# Altium integrated library TI Data Converters Analog to Digital Converter.IntLib: 2197 symbols (part 90 of 168)
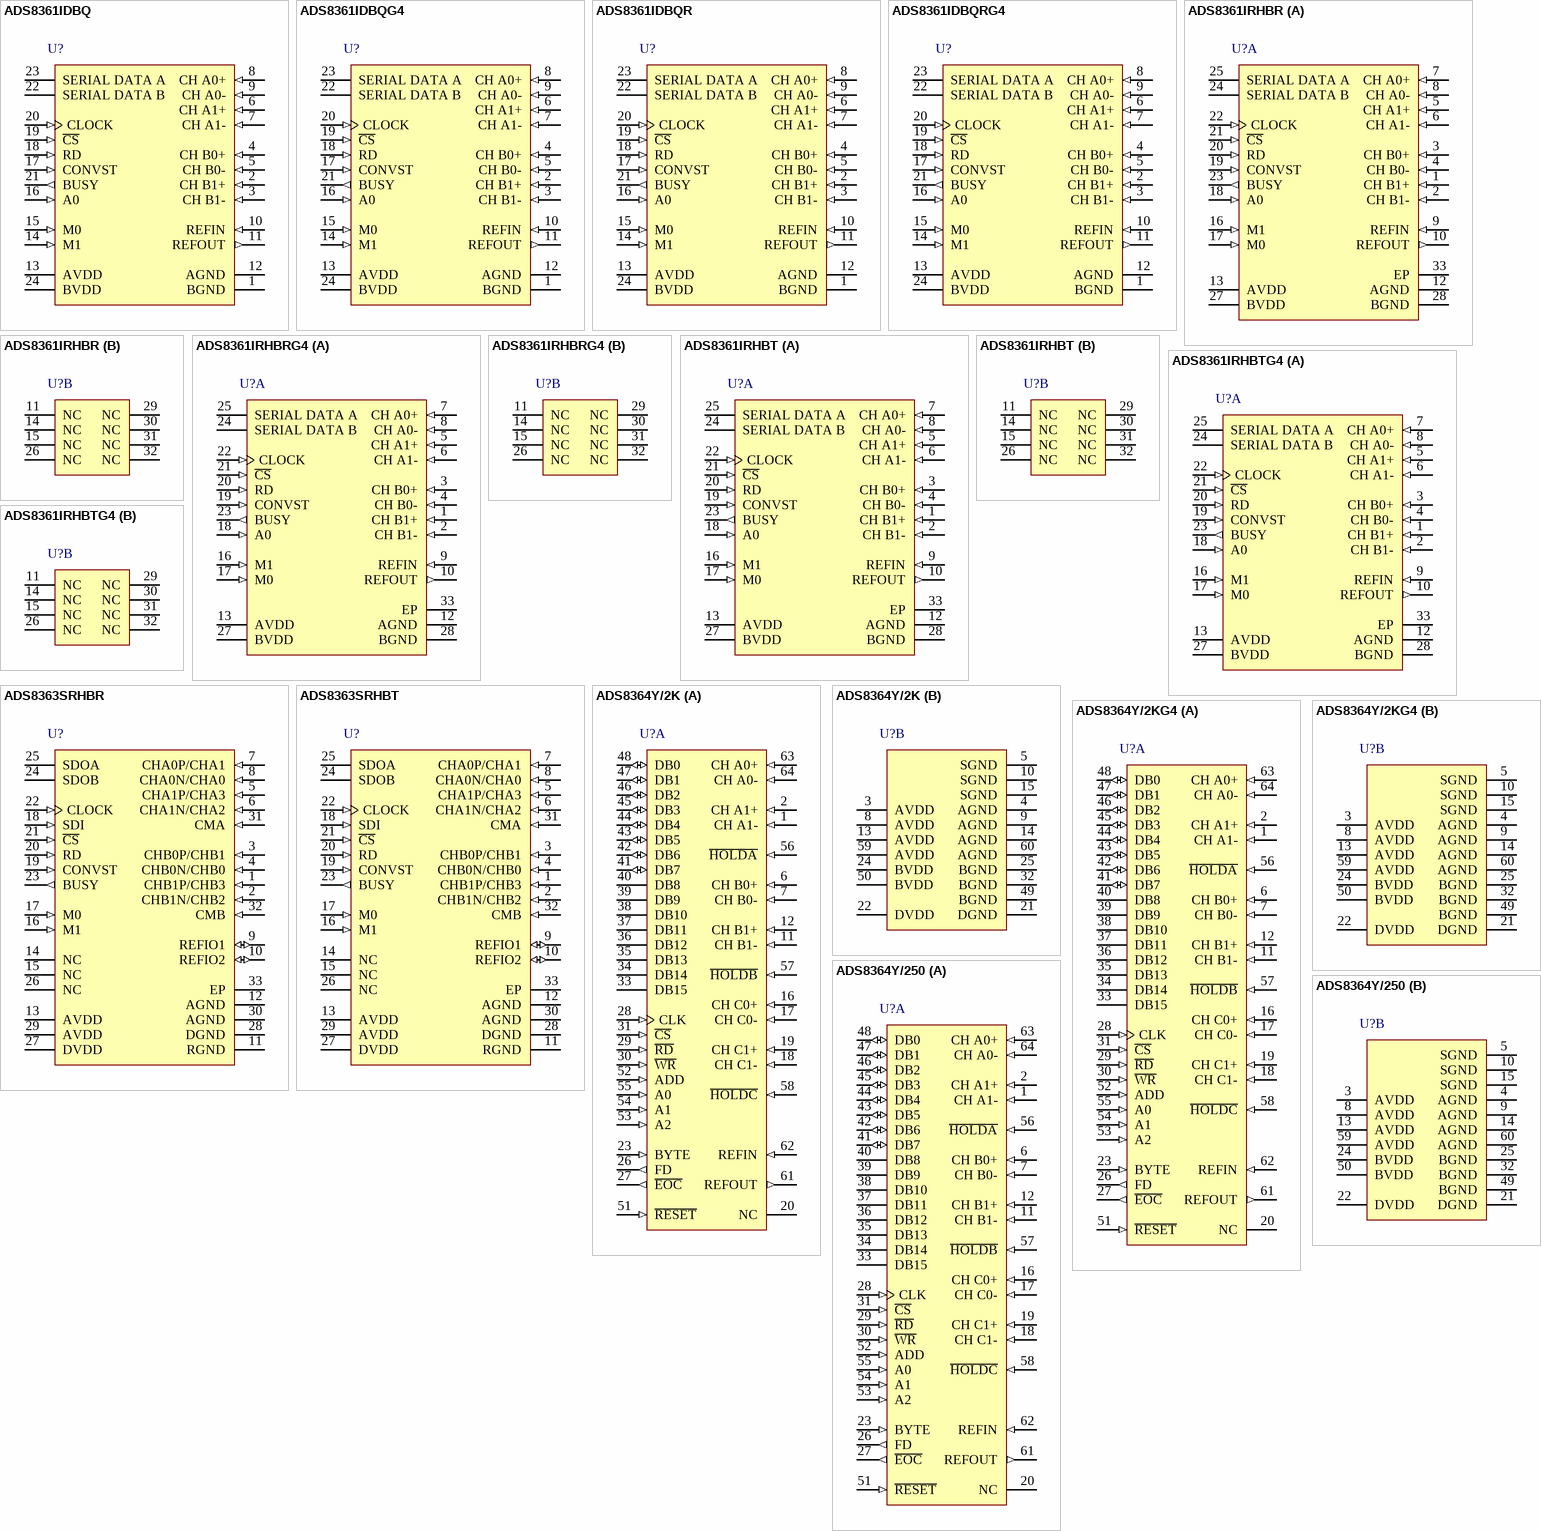
[diagram p215: symbols ADS8361IDBQ to ADS8364Y/250]

## ADS8361IDBQ
designator U?
16-Bit 500 kSPS ADC, 4 Channel, Serial Out, -40 to 125 degC, 24-pin SOP (DBQ24), Green (RoHS & no Sb/Br); Manufacturer: Texas Instruments; PartNumber: ADS8361IDBQ; # Input Channels: 4; Analog Voltage AV/DD(Max)(V): 5.25; Analog Voltage AV/DD(Min)(V): 4.75; Architecture: SAR; Digital Supply(Max)(V): 5.5; Digital Supply(Min)(V): 2.7; INL(Max)(+/-LSB): 8; Interface: Serial SPI; Resolution(Bits): 16; Sample Rate (max)(SPS): 500k; SFDR(dB): 94; SINAD(dB): 83; SubFamily: Precision ADC (<=10MSPS); DatasheetVersion: SBAS230E; PackageVersion: 4073301-4/H, 10/2008; PackageReference: DBQ24; PackageDescription: 24-Pin Plastic Small-Outline, Body 8.65 x 3.90 mm, Pitch 0.635 mm; Supplier 1: Digi-Key; Supplier Part Number 1: ADS7817UCG4-ND; Supplier 2: Mouser; Supplier Part Number 2: 595-ADS7817UCG4; Eco-Plan: Green (RoHS & no Sb/Br); SNR(dB): 83; Mounting Technology: Surface Mount; Code_JEDEC: MO-137; ComponentLink1Description: Manufacturer URL; ComponentLink1URL: http://www.ti.com/; ComponentLink2Description: Datasheet; ComponentLink2URL: http://www.ti.com/general/docs/lit/getliterature.tsp?genericPartNumber=ADS8361&fileType=pdf; ComponentLink3Description: Package Specification; ComponentLink3URL: http://www.ti.com/litv/pdf/mpds211a
footprint TI-DBQ24_N (SOP, 24-Leads, Body 8.65x6mm, Pitch 0.635mm, IPC Medium Density)
footprint TI-DBQ24_L (SOP, 24-Leads, Body 8.65x6mm, Pitch 0.635mm, IPC High Density)
footprint TI-DBQ24_M (SOP, 24-Leads, Body 8.65x6mm, Pitch 0.635mm, IPC Low Density)
pins: 1 BGND (power) "Digital I/O Ground. Connect directly to analog ground (pin 12).", 2 CH B1+ (in) "Noninverting Input Channel B1", 3 CH B1- (in) "Inverting Input Channel B1", 4 CH B0+ (in) "Noninverting Input Channel B0", 5 CH B0- (in) "Inverting Input Channel B0", 6 CH A1+ (in) "Noninverting Input Channel A1", 7 CH A1- (in) "Inverting Input Channel A1", 8 CH A0+ (in) "Noninverting Input Channel A0", 9 CH A0- (in) "Inverting Input Channel A0", 10 REFIN (in) "Reference Input", 11 REFOUT (out) "2.5V Reference Output", 12 AGND (power) "Analog Ground. Connect directly to digital ground (pin 1).", 13 AVDD (power) "Analog Power Supply, +5VDC. Decouple to analog ground with a 0.1uF ceramic capacitor and a 10uF tantalum capacitor.", 14 M1 (in) "Selects between the Serial Outputs. When M1 is LOW, both Serial Output A and Serial Output B are selected for data transfer. When M1 is HIGH, Serial output A is configured for both Channel A data and Channel B data; Serial (See Datasheet)", 15 M0 (in) "Selects between two-channel and four-channel operation. When M0 is LOW, two-channel operation is selected and operates in conjunction with A0. When A0 is HIGH, Channel A1 and Channel B1 are being converted. When A0 is LOW, (See Datasheet)", 16 A0 (in) "A0 operates in conjunction with M0. With M0 LOW and A0 HIGH, Channel A1 and Channel B1 are converted. With M0 LOW and A0 LOW, Channel A0 and Channel B0 are converted.", 17 CONVST (in) "Convert Start. When CONVST switches from LOW to HIGH, the device switches from the sample to hold mode, independent of the status of the external clock.", 18 RD (in) "Synchronization Pulse for the Serial Output.", 19 ~{CS} (in) "Chip Select. When LOW, the Serial Output A and Serial Output B outputs are active; when HIGH, the serial outputs are tri-stated.", 20 CLOCK (in) "An external CMOS-compatible clock can be applied to the CLOCK input to synchronize the conversion process to an external source. The CLOCK pin controls the sampling rate by the equation: fSAMPLE (max) = CLOCK/20.", 21 BUSY (out) "BUSY goes HIGH during a conversion and returns LOW after the third LSB has been transmitted on either the Serial A or Serial B output pin.", 22 SERIAL DATA B (hiz) "The Serial Output data word is comprised of channel information and 16 bits of data. In operation, data is valid on the falling edge of DCLOCK for 20 edges after the rising edge of RD.", 23 SERIAL DATA A (hiz) "The Serial Output data word is comprised of channel information and 16 bits of data. In operation, data is valid on the falling edge of DCLOCK for 20 edges after the rising edge of RD. When M1 is HIGH, both Channel A data (See Datasheet)", 24 BVDD (power) "Digital I/O Power Supply, 2.7V to 5.5V"

## ADS8361IDBQG4
designator U?
16-Bit 500 kSPS ADC, 4 Channel, Serial Out, -40 to 125 degC, 24-pin SOP (DBQ24), Green (RoHS & no Sb/Br); Manufacturer: Texas Instruments; PartNumber: ADS8361IDBQG4; # Input Channels: 4; Analog Voltage AV/DD(Max)(V): 5.25; Analog Voltage AV/DD(Min)(V): 4.75; Architecture: SAR; Digital Supply(Max)(V): 5.5; Digital Supply(Min)(V): 2.7; INL(Max)(+/-LSB): 8; Interface: Serial SPI; Resolution(Bits): 16; Sample Rate (max)(SPS): 500k; SFDR(dB): 94; SINAD(dB): 83; SubFamily: Precision ADC (<=10MSPS); DatasheetVersion: SBAS230E; PackageVersion: 4073301-4/H, 10/2008; PackageReference: DBQ24; PackageDescription: 24-Pin Plastic Small-Outline, Body 8.65 x 3.90 mm, Pitch 0.635 mm; Supplier 1: Digi-Key; Supplier Part Number 1: ADS7817UG4-ND; Supplier 2: Farnell; Supplier Part Number 2: 1235026; Supplier 3: Mouser; Supplier Part Number 3: 595-ADS7817UG4; Eco-Plan: Green (RoHS & no Sb/Br); SNR(dB): 83; Mounting Technology: Surface Mount; Code_JEDEC: MO-137; ComponentLink1Description: Manufacturer URL; ComponentLink1URL: http://www.ti.com/; ComponentLink2Description: Datasheet; ComponentLink2URL: http://www.ti.com/general/docs/lit/getliterature.tsp?genericPartNumber=ADS8361&fileType=pdf; ComponentLink3Description: Package Specification; ComponentLink3URL: http://www.ti.com/litv/pdf/mpds211a
footprint TI-DBQ24_N (SOP, 24-Leads, Body 8.65x6mm, Pitch 0.635mm, IPC Medium Density)
footprint TI-DBQ24_L (SOP, 24-Leads, Body 8.65x6mm, Pitch 0.635mm, IPC High Density)
footprint TI-DBQ24_M (SOP, 24-Leads, Body 8.65x6mm, Pitch 0.635mm, IPC Low Density)
pins: 1 BGND (power) "Digital I/O Ground. Connect directly to analog ground (pin 12).", 2 CH B1+ (in) "Noninverting Input Channel B1", 3 CH B1- (in) "Inverting Input Channel B1", 4 CH B0+ (in) "Noninverting Input Channel B0", 5 CH B0- (in) "Inverting Input Channel B0", 6 CH A1+ (in) "Noninverting Input Channel A1", 7 CH A1- (in) "Inverting Input Channel A1", 8 CH A0+ (in) "Noninverting Input Channel A0", 9 CH A0- (in) "Inverting Input Channel A0", 10 REFIN (in) "Reference Input", 11 REFOUT (out) "2.5V Reference Output", 12 AGND (power) "Analog Ground. Connect directly to digital ground (pin 1).", 13 AVDD (power) "Analog Power Supply, +5VDC. Decouple to analog ground with a 0.1uF ceramic capacitor and a 10uF tantalum capacitor.", 14 M1 (in) "Selects between the Serial Outputs. When M1 is LOW, both Serial Output A and Serial Output B are selected for data transfer. When M1 is HIGH, Serial output A is configured for both Channel A data and Channel B data; Serial (See Datasheet)", 15 M0 (in) "Selects between two-channel and four-channel operation. When M0 is LOW, two-channel operation is selected and operates in conjunction with A0. When A0 is HIGH, Channel A1 and Channel B1 are being converted. When A0 is LOW, (See Datasheet)", 16 A0 (in) "A0 operates in conjunction with M0. With M0 LOW and A0 HIGH, Channel A1 and Channel B1 are converted. With M0 LOW and A0 LOW, Channel A0 and Channel B0 are converted.", 17 CONVST (in) "Convert Start. When CONVST switches from LOW to HIGH, the device switches from the sample to hold mode, independent of the status of the external clock.", 18 RD (in) "Synchronization Pulse for the Serial Output.", 19 ~{CS} (in) "Chip Select. When LOW, the Serial Output A and Serial Output B outputs are active; when HIGH, the serial outputs are tri-stated.", 20 CLOCK (in) "An external CMOS-compatible clock can be applied to the CLOCK input to synchronize the conversion process to an external source. The CLOCK pin controls the sampling rate by the equation: fSAMPLE (max) = CLOCK/20.", 21 BUSY (out) "BUSY goes HIGH during a conversion and returns LOW after the third LSB has been transmitted on either the Serial A or Serial B output pin.", 22 SERIAL DATA B (hiz) "The Serial Output data word is comprised of channel information and 16 bits of data. In operation, data is valid on the falling edge of DCLOCK for 20 edges after the rising edge of RD.", 23 SERIAL DATA A (hiz) "The Serial Output data word is comprised of channel information and 16 bits of data. In operation, data is valid on the falling edge of DCLOCK for 20 edges after the rising edge of RD. When M1 is HIGH, both Channel A data (See Datasheet)", 24 BVDD (power) "Digital I/O Power Supply, 2.7V to 5.5V"

## ADS8361IDBQR
designator U?
16-Bit 500 kSPS ADC, 4 Channel, Serial Out, -40 to 125 degC, 24-pin SOP (DBQ24), Green (RoHS & no Sb/Br); Manufacturer: Texas Instruments; PartNumber: ADS8361IDBQR; # Input Channels: 4; Analog Voltage AV/DD(Max)(V): 5.25; Analog Voltage AV/DD(Min)(V): 4.75; Architecture: SAR; Digital Supply(Max)(V): 5.5; Digital Supply(Min)(V): 2.7; INL(Max)(+/-LSB): 8; Interface: Serial SPI; Resolution(Bits): 16; Sample Rate (max)(SPS): 500k; SFDR(dB): 94; SINAD(dB): 83; SubFamily: Precision ADC (<=10MSPS); DatasheetVersion: SBAS230E; PackageVersion: 4073301-4/H, 10/2008; PackageReference: DBQ24; PackageDescription: 24-Pin Plastic Small-Outline, Body 8.65 x 3.90 mm, Pitch 0.635 mm; Supplier 1: Digi-Key; Supplier Part Number 1: 296-35561-5-ND; Supplier 2: Farnell; Supplier Part Number 2: 1212285; Supplier 3: Newark; Supplier Part Number 3: 01M6818; Supplier 4: Newark; Supplier Part Number 4: 74C7096; Supplier 5: Mouser; Supplier Part Number 5: 595-ADS7813P; Eco-Plan: Green (RoHS & no Sb/Br); SNR(dB): 83; Mounting Technology: Surface Mount; Code_JEDEC: MO-137; ComponentLink1Description: Manufacturer URL; ComponentLink1URL: http://www.ti.com/; ComponentLink2Description: Datasheet; ComponentLink2URL: http://www.ti.com/general/docs/lit/getliterature.tsp?genericPartNumber=ADS8361&fileType=pdf; ComponentLink3Description: Package Specification; ComponentLink3URL: http://www.ti.com/litv/pdf/mpds211a
footprint TI-DBQ24_N (SOP, 24-Leads, Body 8.65x6mm, Pitch 0.635mm, IPC Medium Density)
footprint TI-DBQ24_L (SOP, 24-Leads, Body 8.65x6mm, Pitch 0.635mm, IPC High Density)
footprint TI-DBQ24_M (SOP, 24-Leads, Body 8.65x6mm, Pitch 0.635mm, IPC Low Density)
pins: 1 BGND (power) "Digital I/O Ground. Connect directly to analog ground (pin 12).", 2 CH B1+ (in) "Noninverting Input Channel B1", 3 CH B1- (in) "Inverting Input Channel B1", 4 CH B0+ (in) "Noninverting Input Channel B0", 5 CH B0- (in) "Inverting Input Channel B0", 6 CH A1+ (in) "Noninverting Input Channel A1", 7 CH A1- (in) "Inverting Input Channel A1", 8 CH A0+ (in) "Noninverting Input Channel A0", 9 CH A0- (in) "Inverting Input Channel A0", 10 REFIN (in) "Reference Input", 11 REFOUT (out) "2.5V Reference Output", 12 AGND (power) "Analog Ground. Connect directly to digital ground (pin 1).", 13 AVDD (power) "Analog Power Supply, +5VDC. Decouple to analog ground with a 0.1uF ceramic capacitor and a 10uF tantalum capacitor.", 14 M1 (in) "Selects between the Serial Outputs. When M1 is LOW, both Serial Output A and Serial Output B are selected for data transfer. When M1 is HIGH, Serial output A is configured for both Channel A data and Channel B data; Serial (See Datasheet)", 15 M0 (in) "Selects between two-channel and four-channel operation. When M0 is LOW, two-channel operation is selected and operates in conjunction with A0. When A0 is HIGH, Channel A1 and Channel B1 are being converted. When A0 is LOW, (See Datasheet)", 16 A0 (in) "A0 operates in conjunction with M0. With M0 LOW and A0 HIGH, Channel A1 and Channel B1 are converted. With M0 LOW and A0 LOW, Channel A0 and Channel B0 are converted.", 17 CONVST (in) "Convert Start. When CONVST switches from LOW to HIGH, the device switches from the sample to hold mode, independent of the status of the external clock.", 18 RD (in) "Synchronization Pulse for the Serial Output.", 19 ~{CS} (in) "Chip Select. When LOW, the Serial Output A and Serial Output B outputs are active; when HIGH, the serial outputs are tri-stated.", 20 CLOCK (in) "An external CMOS-compatible clock can be applied to the CLOCK input to synchronize the conversion process to an external source. The CLOCK pin controls the sampling rate by the equation: fSAMPLE (max) = CLOCK/20.", 21 BUSY (out) "BUSY goes HIGH during a conversion and returns LOW after the third LSB has been transmitted on either the Serial A or Serial B output pin.", 22 SERIAL DATA B (hiz) "The Serial Output data word is comprised of channel information and 16 bits of data. In operation, data is valid on the falling edge of DCLOCK for 20 edges after the rising edge of RD.", 23 SERIAL DATA A (hiz) "The Serial Output data word is comprised of channel information and 16 bits of data. In operation, data is valid on the falling edge of DCLOCK for 20 edges after the rising edge of RD. When M1 is HIGH, both Channel A data (See Datasheet)", 24 BVDD (power) "Digital I/O Power Supply, 2.7V to 5.5V"

## ADS8361IDBQRG4
designator U?
16-Bit 500 kSPS ADC, 4 Channel, Serial Out, -40 to 125 degC, 24-pin SOP (DBQ24), Green (RoHS & no Sb/Br); Manufacturer: Texas Instruments; PartNumber: ADS8361IDBQRG4; # Input Channels: 4; Analog Voltage AV/DD(Max)(V): 5.25; Analog Voltage AV/DD(Min)(V): 4.75; Architecture: SAR; Digital Supply(Max)(V): 5.5; Digital Supply(Min)(V): 2.7; INL(Max)(+/-LSB): 8; Interface: Serial SPI; Resolution(Bits): 16; Sample Rate (max)(SPS): 500k; SFDR(dB): 94; SINAD(dB): 83; SubFamily: Precision ADC (<=10MSPS); DatasheetVersion: SBAS230E; PackageVersion: 4073301-4/H, 10/2008; PackageReference: DBQ24; PackageDescription: 24-Pin Plastic Small-Outline, Body 8.65 x 3.90 mm, Pitch 0.635 mm; Supplier 1: Digi-Key; Supplier Part Number 1: ADS7813PB-ND; Supplier 2: Newark; Supplier Part Number 2: 74C7097; Supplier 3: Mouser; Supplier Part Number 3: 595-ADS7813PB; Eco-Plan: Green (RoHS & no Sb/Br); SNR(dB): 83; Mounting Technology: Surface Mount; Code_JEDEC: MO-137; ComponentLink1Description: Manufacturer URL; ComponentLink1URL: http://www.ti.com/; ComponentLink2Description: Datasheet; ComponentLink2URL: http://www.ti.com/general/docs/lit/getliterature.tsp?genericPartNumber=ADS8361&fileType=pdf; ComponentLink3Description: Package Specification; ComponentLink3URL: http://www.ti.com/litv/pdf/mpds211a
footprint TI-DBQ24_N (SOP, 24-Leads, Body 8.65x6mm, Pitch 0.635mm, IPC Medium Density)
footprint TI-DBQ24_L (SOP, 24-Leads, Body 8.65x6mm, Pitch 0.635mm, IPC High Density)
footprint TI-DBQ24_M (SOP, 24-Leads, Body 8.65x6mm, Pitch 0.635mm, IPC Low Density)
pins: 1 BGND (power) "Digital I/O Ground. Connect directly to analog ground (pin 12).", 2 CH B1+ (in) "Noninverting Input Channel B1", 3 CH B1- (in) "Inverting Input Channel B1", 4 CH B0+ (in) "Noninverting Input Channel B0", 5 CH B0- (in) "Inverting Input Channel B0", 6 CH A1+ (in) "Noninverting Input Channel A1", 7 CH A1- (in) "Inverting Input Channel A1", 8 CH A0+ (in) "Noninverting Input Channel A0", 9 CH A0- (in) "Inverting Input Channel A0", 10 REFIN (in) "Reference Input", 11 REFOUT (out) "2.5V Reference Output", 12 AGND (power) "Analog Ground. Connect directly to digital ground (pin 1).", 13 AVDD (power) "Analog Power Supply, +5VDC. Decouple to analog ground with a 0.1uF ceramic capacitor and a 10uF tantalum capacitor.", 14 M1 (in) "Selects between the Serial Outputs. When M1 is LOW, both Serial Output A and Serial Output B are selected for data transfer. When M1 is HIGH, Serial output A is configured for both Channel A data and Channel B data; Serial (See Datasheet)", 15 M0 (in) "Selects between two-channel and four-channel operation. When M0 is LOW, two-channel operation is selected and operates in conjunction with A0. When A0 is HIGH, Channel A1 and Channel B1 are being converted. When A0 is LOW, (See Datasheet)", 16 A0 (in) "A0 operates in conjunction with M0. With M0 LOW and A0 HIGH, Channel A1 and Channel B1 are converted. With M0 LOW and A0 LOW, Channel A0 and Channel B0 are converted.", 17 CONVST (in) "Convert Start. When CONVST switches from LOW to HIGH, the device switches from the sample to hold mode, independent of the status of the external clock.", 18 RD (in) "Synchronization Pulse for the Serial Output.", 19 ~{CS} (in) "Chip Select. When LOW, the Serial Output A and Serial Output B outputs are active; when HIGH, the serial outputs are tri-stated.", 20 CLOCK (in) "An external CMOS-compatible clock can be applied to the CLOCK input to synchronize the conversion process to an external source. The CLOCK pin controls the sampling rate by the equation: fSAMPLE (max) = CLOCK/20.", 21 BUSY (out) "BUSY goes HIGH during a conversion and returns LOW after the third LSB has been transmitted on either the Serial A or Serial B output pin.", 22 SERIAL DATA B (hiz) "The Serial Output data word is comprised of channel information and 16 bits of data. In operation, data is valid on the falling edge of DCLOCK for 20 edges after the rising edge of RD.", 23 SERIAL DATA A (hiz) "The Serial Output data word is comprised of channel information and 16 bits of data. In operation, data is valid on the falling edge of DCLOCK for 20 edges after the rising edge of RD. When M1 is HIGH, both Channel A data (See Datasheet)", 24 BVDD (power) "Digital I/O Power Supply, 2.7V to 5.5V"

## ADS8361IRHBR
designator U?
16-Bit 500 kSPS ADC, 4 Channel, Serial Out, -40 to 125 degC, 32-pin QFN (RHB32), Green (RoHS & no Sb/Br); Manufacturer: Texas Instruments; PartNumber: ADS8361IRHBR; # Input Channels: 4; Analog Voltage AV/DD(Max)(V): 5.25; Analog Voltage AV/DD(Min)(V): 4.75; Architecture: SAR; Digital Supply(Max)(V): 5.5; Digital Supply(Min)(V): 2.7; INL(Max)(+/-LSB): 8; Interface: Serial SPI; Resolution(Bits): 16; Sample Rate (max)(SPS): 500k; SFDR(dB): 94; SINAD(dB): 83; SubFamily: Precision ADC (<=10MSPS); DatasheetVersion: SBAS230E; PackageVersion: 4204326/D, 06/2011; PackageReference: RHB32-3150X3150TP; PackageDescription: 32-Pin Plastic Flat Pack, Body 5 x 5 mm, Pitch 0.5 mm; Supplier 1: Digi-Key; Supplier Part Number 1: ADS7813PBG4-ND; Supplier 2: Mouser; Supplier Part Number 2: 595-ADS7813PBG4; Eco-Plan: Green (RoHS & no Sb/Br); SNR(dB): 83; Mounting Technology: Surface Mount; Code_JEDEC: MO-220; ComponentLink1Description: Manufacturer URL; ComponentLink1URL: http://www.ti.com/; ComponentLink2Description: Datasheet; ComponentLink2URL: http://www.ti.com/general/docs/lit/getliterature.tsp?genericPartNumber=ADS8361&fileType=pdf; ComponentLink3Description: Package Specification; ComponentLink3URL: http://www.ti.com/lit/ml/mpqf130c/mpqf130c.pdf
footprint TI-RHB32-3150X3150TP_V (QFN, 32-Leads, Body 5x5mm, Pitch 0.5mm, Thermal Pad 3.15x3.15mm)
part A pins: 1 CH B1+ (in) "Noninverting Input Channel B1", 2 CH B1- (in) "Inverting Input Channel B1", 3 CH B0+ (in) "Noninverting Input Channel B0", 4 CH B0- (in) "Inverting Input Channel B0", 5 CH A1+ (in) "Noninverting Input Channel A1", 6 CH A1- (in) "Inverting Input Channel A1", 7 CH A0+ (in) "Noninverting Input Channel A0", 8 CH A0- (in) "Inverting Input Channel A0", 9 REFIN (in) "Reference Input", 10 REFOUT (out) "2.5V Reference Output", 12 AGND (power) "Analog Ground. Connect directly to digital ground (pin 1).", 13 AVDD (power) "Analog Power Supply, +5VDC. Decouple to analog ground with a 0.1uF ceramic capacitor and a 10uF tantalum capacitor.", 16 M1 (in) "Selects between the Serial Outputs. When M1 is LOW, both Serial Output A and Serial Output B are selected for data transfer. When M1 is HIGH, Serial output A is configured for both Channel A data and Channel B data; Serial (See Datasheet)", 17 M0 (in) "Selects between two-channel and four-channel operation. When M0 is LOW, two-channel operation is selected and operates in conjunction with A0. When A0 is HIGH, Channel A1 and Channel B1 are being converted. When A0 is LOW, (See Datasheet)", 18 A0 (in) "A0 operates in conjunction with M0. With M0 LOW and A0 HIGH, Channel A1 and Channel B1 are converted. With M0 LOW and A0 LOW, Channel A0 and Channel B0 are converted.", 19 CONVST (in) "Convert Start. When CONVST switches from LOW to HIGH, the device switches from the sample to hold mode, independent of the status of the external clock.", 20 RD (in) "Synchronization Pulse for the Serial Output.", 21 ~{CS} (in) "Chip Select. When LOW, the Serial Output A and Serial Output B outputs are active; when HIGH, the serial outputs are tri-stated.", 22 CLOCK (in) "An external CMOS-compatible clock can be applied to the CLOCK input to synchronize the conversion process to an external source. The CLOCK pin controls the sampling rate by the equation: fSAMPLE (max) = CLOCK/20.", 23 BUSY (out) "BUSY goes HIGH during a conversion and returns LOW after the third LSB has been transmitted on either the Serial A or Serial B output pin.", 24 SERIAL DATA B (hiz) "The Serial Output data word is comprised of channel information and 16 bits of data. In operation, data is valid on the falling edge of DCLOCK for 20 edges after the rising edge of RD.", 25 SERIAL DATA A (hiz) "The Serial Output data word is comprised of channel information and 16 bits of data. In operation, data is valid on the falling edge of DCLOCK for 20 edges after the rising edge of RD. When M1 is HIGH, both Channel A data (See Datasheet)", 27 BVDD (power) "Digital I/O Power Supply, 2.7V to 5.5V", 28 BGND (power) "Digital I/O Ground. Connect directly to analog ground (pin 12).", 33 EP "The thermal pad is internally connected to the substrate. This pad can be connected to the analog ground or left floating. Keep the thermal pad separate from the digital ground, if possible."
part B pins: 11 NC "Not Connected", 14 NC "Not Connected", 15 NC "Not Connected", 26 NC "Not Connected", 29 NC "Not Connected", 30 NC "Not Connected", 31 NC "Not Connected", 32 NC "Not Connected"

## ADS8361IRHBRG4
designator U?
16-Bit 500 kSPS ADC, 4 Channel, Serial Out, -40 to 125 degC, 32-pin QFN (RHB32), Green (RoHS & no Sb/Br); Manufacturer: Texas Instruments; PartNumber: ADS8361IRHBRG4; # Input Channels: 4; Analog Voltage AV/DD(Max)(V): 5.25; Analog Voltage AV/DD(Min)(V): 4.75; Architecture: SAR; Digital Supply(Max)(V): 5.5; Digital Supply(Min)(V): 2.7; INL(Max)(+/-LSB): 8; Interface: Serial SPI; Resolution(Bits): 16; Sample Rate (max)(SPS): 500k; SFDR(dB): 94; SINAD(dB): 83; SubFamily: Precision ADC (<=10MSPS); DatasheetVersion: SBAS230E; PackageVersion: 4204326/D, 06/2011; PackageReference: RHB32-3150X3150TP; PackageDescription: 32-Pin Plastic Flat Pack, Body 5 x 5 mm, Pitch 0.5 mm; Supplier 1: Digi-Key; Supplier Part Number 1: ADS7813PG4-ND; Supplier 2: Mouser; Supplier Part Number 2: 595-ADS7813PG4; Eco-Plan: Green (RoHS & no Sb/Br); SNR(dB): 83; Mounting Technology: Surface Mount; Code_JEDEC: MO-220; ComponentLink1Description: Manufacturer URL; ComponentLink1URL: http://www.ti.com/; ComponentLink2Description: Datasheet; ComponentLink2URL: http://www.ti.com/general/docs/lit/getliterature.tsp?genericPartNumber=ADS8361&fileType=pdf; ComponentLink3Description: Package Specification; ComponentLink3URL: http://www.ti.com/lit/ml/mpqf130c/mpqf130c.pdf
footprint TI-RHB32-3150X3150TP_V (QFN, 32-Leads, Body 5x5mm, Pitch 0.5mm, Thermal Pad 3.15x3.15mm)
part A pins: 1 CH B1+ (in) "Noninverting Input Channel B1", 2 CH B1- (in) "Inverting Input Channel B1", 3 CH B0+ (in) "Noninverting Input Channel B0", 4 CH B0- (in) "Inverting Input Channel B0", 5 CH A1+ (in) "Noninverting Input Channel A1", 6 CH A1- (in) "Inverting Input Channel A1", 7 CH A0+ (in) "Noninverting Input Channel A0", 8 CH A0- (in) "Inverting Input Channel A0", 9 REFIN (in) "Reference Input", 10 REFOUT (out) "2.5V Reference Output", 12 AGND (power) "Analog Ground. Connect directly to digital ground (pin 1).", 13 AVDD (power) "Analog Power Supply, +5VDC. Decouple to analog ground with a 0.1uF ceramic capacitor and a 10uF tantalum capacitor.", 16 M1 (in) "Selects between the Serial Outputs. When M1 is LOW, both Serial Output A and Serial Output B are selected for data transfer. When M1 is HIGH, Serial output A is configured for both Channel A data and Channel B data; Serial (See Datasheet)", 17 M0 (in) "Selects between two-channel and four-channel operation. When M0 is LOW, two-channel operation is selected and operates in conjunction with A0. When A0 is HIGH, Channel A1 and Channel B1 are being converted. When A0 is LOW, (See Datasheet)", 18 A0 (in) "A0 operates in conjunction with M0. With M0 LOW and A0 HIGH, Channel A1 and Channel B1 are converted. With M0 LOW and A0 LOW, Channel A0 and Channel B0 are converted.", 19 CONVST (in) "Convert Start. When CONVST switches from LOW to HIGH, the device switches from the sample to hold mode, independent of the status of the external clock.", 20 RD (in) "Synchronization Pulse for the Serial Output.", 21 ~{CS} (in) "Chip Select. When LOW, the Serial Output A and Serial Output B outputs are active; when HIGH, the serial outputs are tri-stated.", 22 CLOCK (in) "An external CMOS-compatible clock can be applied to the CLOCK input to synchronize the conversion process to an external source. The CLOCK pin controls the sampling rate by the equation: fSAMPLE (max) = CLOCK/20.", 23 BUSY (out) "BUSY goes HIGH during a conversion and returns LOW after the third LSB has been transmitted on either the Serial A or Serial B output pin.", 24 SERIAL DATA B (hiz) "The Serial Output data word is comprised of channel information and 16 bits of data. In operation, data is valid on the falling edge of DCLOCK for 20 edges after the rising edge of RD.", 25 SERIAL DATA A (hiz) "The Serial Output data word is comprised of channel information and 16 bits of data. In operation, data is valid on the falling edge of DCLOCK for 20 edges after the rising edge of RD. When M1 is HIGH, both Channel A data (See Datasheet)", 27 BVDD (power) "Digital I/O Power Supply, 2.7V to 5.5V", 28 BGND (power) "Digital I/O Ground. Connect directly to analog ground (pin 12).", 33 EP "The thermal pad is internally connected to the substrate. This pad can be connected to the analog ground or left floating. Keep the thermal pad separate from the digital ground, if possible."
part B pins: 11 NC "Not Connected", 14 NC "Not Connected", 15 NC "Not Connected", 26 NC "Not Connected", 29 NC "Not Connected", 30 NC "Not Connected", 31 NC "Not Connected", 32 NC "Not Connected"

## ADS8361IRHBT
designator U?
16-Bit 500 kSPS ADC, 4 Channel, Serial Out, -40 to 125 degC, 32-pin QFN (RHB32), Green (RoHS & no Sb/Br); Manufacturer: Texas Instruments; PartNumber: ADS8361IRHBT; # Input Channels: 4; Analog Voltage AV/DD(Max)(V): 5.25; Analog Voltage AV/DD(Min)(V): 4.75; Architecture: SAR; Digital Supply(Max)(V): 5.5; Digital Supply(Min)(V): 2.7; INL(Max)(+/-LSB): 8; Interface: Serial SPI; Resolution(Bits): 16; Sample Rate (max)(SPS): 500k; SFDR(dB): 94; SINAD(dB): 83; SubFamily: Precision ADC (<=10MSPS); DatasheetVersion: SBAS230E; PackageVersion: 4204326/D, 06/2011; PackageReference: RHB32-3150X3150TP; PackageDescription: 32-Pin Plastic Flat Pack, Body 5 x 5 mm, Pitch 0.5 mm; Supplier 1: Digi-Key; Supplier Part Number 1: ADS7813U-ND; Supplier 2: Newark; Supplier Part Number 2: 80K5551; Supplier 3: Mouser; Supplier Part Number 3: 595-ADS7813U; Eco-Plan: Green (RoHS & no Sb/Br); SNR(dB): 83; Mounting Technology: Surface Mount; Code_JEDEC: MO-220; ComponentLink1Description: Manufacturer URL; ComponentLink1URL: http://www.ti.com/; ComponentLink2Description: Datasheet; ComponentLink2URL: http://www.ti.com/general/docs/lit/getliterature.tsp?genericPartNumber=ADS8361&fileType=pdf; ComponentLink3Description: Package Specification; ComponentLink3URL: http://www.ti.com/lit/ml/mpqf130c/mpqf130c.pdf
footprint TI-RHB32-3150X3150TP_V (QFN, 32-Leads, Body 5x5mm, Pitch 0.5mm, Thermal Pad 3.15x3.15mm)
part A pins: 1 CH B1+ (in) "Noninverting Input Channel B1", 2 CH B1- (in) "Inverting Input Channel B1", 3 CH B0+ (in) "Noninverting Input Channel B0", 4 CH B0- (in) "Inverting Input Channel B0", 5 CH A1+ (in) "Noninverting Input Channel A1", 6 CH A1- (in) "Inverting Input Channel A1", 7 CH A0+ (in) "Noninverting Input Channel A0", 8 CH A0- (in) "Inverting Input Channel A0", 9 REFIN (in) "Reference Input", 10 REFOUT (out) "2.5V Reference Output", 12 AGND (power) "Analog Ground. Connect directly to digital ground (pin 1).", 13 AVDD (power) "Analog Power Supply, +5VDC. Decouple to analog ground with a 0.1uF ceramic capacitor and a 10uF tantalum capacitor.", 16 M1 (in) "Selects between the Serial Outputs. When M1 is LOW, both Serial Output A and Serial Output B are selected for data transfer. When M1 is HIGH, Serial output A is configured for both Channel A data and Channel B data; Serial (See Datasheet)", 17 M0 (in) "Selects between two-channel and four-channel operation. When M0 is LOW, two-channel operation is selected and operates in conjunction with A0. When A0 is HIGH, Channel A1 and Channel B1 are being converted. When A0 is LOW, (See Datasheet)", 18 A0 (in) "A0 operates in conjunction with M0. With M0 LOW and A0 HIGH, Channel A1 and Channel B1 are converted. With M0 LOW and A0 LOW, Channel A0 and Channel B0 are converted.", 19 CONVST (in) "Convert Start. When CONVST switches from LOW to HIGH, the device switches from the sample to hold mode, independent of the status of the external clock.", 20 RD (in) "Synchronization Pulse for the Serial Output.", 21 ~{CS} (in) "Chip Select. When LOW, the Serial Output A and Serial Output B outputs are active; when HIGH, the serial outputs are tri-stated.", 22 CLOCK (in) "An external CMOS-compatible clock can be applied to the CLOCK input to synchronize the conversion process to an external source. The CLOCK pin controls the sampling rate by the equation: fSAMPLE (max) = CLOCK/20.", 23 BUSY (out) "BUSY goes HIGH during a conversion and returns LOW after the third LSB has been transmitted on either the Serial A or Serial B output pin.", 24 SERIAL DATA B (hiz) "The Serial Output data word is comprised of channel information and 16 bits of data. In operation, data is valid on the falling edge of DCLOCK for 20 edges after the rising edge of RD.", 25 SERIAL DATA A (hiz) "The Serial Output data word is comprised of channel information and 16 bits of data. In operation, data is valid on the falling edge of DCLOCK for 20 edges after the rising edge of RD. When M1 is HIGH, both Channel A data (See Datasheet)", 27 BVDD (power) "Digital I/O Power Supply, 2.7V to 5.5V", 28 BGND (power) "Digital I/O Ground. Connect directly to analog ground (pin 12).", 33 EP "The thermal pad is internally connected to the substrate. This pad can be connected to the analog ground or left floating. Keep the thermal pad separate from the digital ground, if possible."
part B pins: 11 NC "Not Connected", 14 NC "Not Connected", 15 NC "Not Connected", 26 NC "Not Connected", 29 NC "Not Connected", 30 NC "Not Connected", 31 NC "Not Connected", 32 NC "Not Connected"

## ADS8361IRHBTG4
designator U?
16-Bit 500 kSPS ADC, 4 Channel, Serial Out, -40 to 125 degC, 32-pin QFN (RHB32), Green (RoHS & no Sb/Br); Manufacturer: Texas Instruments; PartNumber: ADS8361IRHBTG4; # Input Channels: 4; Analog Voltage AV/DD(Max)(V): 5.25; Analog Voltage AV/DD(Min)(V): 4.75; Architecture: SAR; Digital Supply(Max)(V): 5.5; Digital Supply(Min)(V): 2.7; INL(Max)(+/-LSB): 8; Interface: Serial SPI; Resolution(Bits): 16; Sample Rate (max)(SPS): 500k; SFDR(dB): 94; SINAD(dB): 83; SubFamily: Precision ADC (<=10MSPS); DatasheetVersion: SBAS230E; PackageVersion: 4204326/D, 06/2011; PackageReference: RHB32-3150X3150TP; PackageDescription: 32-Pin Plastic Flat Pack, Body 5 x 5 mm, Pitch 0.5 mm; Supplier 1: Digi-Key; Supplier Part Number 1: ADS7813U/1K-ND; Supplier 2: Mouser; Supplier Part Number 2: 595-ADS7813U/1K; Eco-Plan: Green (RoHS & no Sb/Br); SNR(dB): 83; Mounting Technology: Surface Mount; Code_JEDEC: MO-220; ComponentLink1Description: Manufacturer URL; ComponentLink1URL: http://www.ti.com/; ComponentLink2Description: Datasheet; ComponentLink2URL: http://www.ti.com/general/docs/lit/getliterature.tsp?genericPartNumber=ADS8361&fileType=pdf; ComponentLink3Description: Package Specification; ComponentLink3URL: http://www.ti.com/lit/ml/mpqf130c/mpqf130c.pdf
footprint TI-RHB32-3150X3150TP_V (QFN, 32-Leads, Body 5x5mm, Pitch 0.5mm, Thermal Pad 3.15x3.15mm)
part A pins: 1 CH B1+ (in) "Noninverting Input Channel B1", 2 CH B1- (in) "Inverting Input Channel B1", 3 CH B0+ (in) "Noninverting Input Channel B0", 4 CH B0- (in) "Inverting Input Channel B0", 5 CH A1+ (in) "Noninverting Input Channel A1", 6 CH A1- (in) "Inverting Input Channel A1", 7 CH A0+ (in) "Noninverting Input Channel A0", 8 CH A0- (in) "Inverting Input Channel A0", 9 REFIN (in) "Reference Input", 10 REFOUT (out) "2.5V Reference Output", 12 AGND (power) "Analog Ground. Connect directly to digital ground (pin 1).", 13 AVDD (power) "Analog Power Supply, +5VDC. Decouple to analog ground with a 0.1uF ceramic capacitor and a 10uF tantalum capacitor.", 16 M1 (in) "Selects between the Serial Outputs. When M1 is LOW, both Serial Output A and Serial Output B are selected for data transfer. When M1 is HIGH, Serial output A is configured for both Channel A data and Channel B data; Serial (See Datasheet)", 17 M0 (in) "Selects between two-channel and four-channel operation. When M0 is LOW, two-channel operation is selected and operates in conjunction with A0. When A0 is HIGH, Channel A1 and Channel B1 are being converted. When A0 is LOW, (See Datasheet)", 18 A0 (in) "A0 operates in conjunction with M0. With M0 LOW and A0 HIGH, Channel A1 and Channel B1 are converted. With M0 LOW and A0 LOW, Channel A0 and Channel B0 are converted.", 19 CONVST (in) "Convert Start. When CONVST switches from LOW to HIGH, the device switches from the sample to hold mode, independent of the status of the external clock.", 20 RD (in) "Synchronization Pulse for the Serial Output.", 21 ~{CS} (in) "Chip Select. When LOW, the Serial Output A and Serial Output B outputs are active; when HIGH, the serial outputs are tri-stated.", 22 CLOCK (in) "An external CMOS-compatible clock can be applied to the CLOCK input to synchronize the conversion process to an external source. The CLOCK pin controls the sampling rate by the equation: fSAMPLE (max) = CLOCK/20.", 23 BUSY (out) "BUSY goes HIGH during a conversion and returns LOW after the third LSB has been transmitted on either the Serial A or Serial B output pin.", 24 SERIAL DATA B (hiz) "The Serial Output data word is comprised of channel information and 16 bits of data. In operation, data is valid on the falling edge of DCLOCK for 20 edges after the rising edge of RD.", 25 SERIAL DATA A (hiz) "The Serial Output data word is comprised of channel information and 16 bits of data. In operation, data is valid on the falling edge of DCLOCK for 20 edges after the rising edge of RD. When M1 is HIGH, both Channel A data (See Datasheet)", 27 BVDD (power) "Digital I/O Power Supply, 2.7V to 5.5V", 28 BGND (power) "Digital I/O Ground. Connect directly to analog ground (pin 12).", 33 EP "The thermal pad is internally connected to the substrate. This pad can be connected to the analog ground or left floating. Keep the thermal pad separate from the digital ground, if possible."
part B pins: 11 NC "Not Connected", 14 NC "Not Connected", 15 NC "Not Connected", 26 NC "Not Connected", 29 NC "Not Connected", 30 NC "Not Connected", 31 NC "Not Connected", 32 NC "Not Connected"

## ADS8363SRHBR
designator U?
16-Bit 1 MSPS 4 x 2 / 2 x 2 Simultaneous Sampling SAR ADC, -40 to 125 degC, 32-pin QFN (RHB32), Green (RoHS & no Sb/Br); Manufacturer: Texas Instruments; PartNumber: ADS8363SRHBR; # Input Channels: 4; Analog Voltage AV/DD(Max)(V): 5.5; Analog Voltage AV/DD(Min)(V): 2.7; Digital Supply(Min)(V): 2.3; INL(Max)(+/-LSB): 3; Interface: Serial; Resolution(Bits): 16; Sample Rate (max)(SPS): 1M; SFDR(dB): 100; SINAD(dB): 92; SNR(dB): 93; SubFamily: Precision ADC (<=10MSPS); DatasheetVersion: SBAS523B; PackageVersion: 4204326/D, 06/2011; PackageReference: RHB32-3450X3450TP; PackageDescription: 32-Pin Plastic Flat Pack, Body 5 x 5 mm, Pitch 0.5 mm; Supplier 1: Digi-Key; Supplier Part Number 1: ADS7813U/1KE4-ND; Supplier 2: Mouser; Supplier Part Number 2: 595-ADS7813U/1KE4; Architecture: SAR; Digital Supply(Max)(V): 5.5; Eco-Plan: Green (RoHS & no Sb/Br); Mounting Technology: Surface Mount; Code_JEDEC: MO-220; ComponentLink1Description: Manufacturer URL; ComponentLink1URL: http://www.ti.com/; ComponentLink2Description: Datasheet; ComponentLink2URL: http://www.ti.com/general/docs/lit/getliterature.tsp?genericPartNumber=ADS8363&fileType=pdf; ComponentLink3Description: Package Specification; ComponentLink3URL: http://www.ti.com/lit/ml/mpqf130c/mpqf130c.pdf
footprint TI-RHB32-3450X3450TP_V (QFN, 32-Leads, Body 5x5mm, Pitch 0.5mm, Thermal Pad 3.45x3.45mm)
pins: 1 CHB1P/CHB3 (in) "Fully-differential noninverting analog input channel B1 or pseudo-differential input B3", 2 CHB1N/CHB2 (in) "Fully-differential inverting analog input channel B1 or pseudo-differential input B2", 3 CHB0P/CHB1 (in) "Fully-differential noninverting analog input channel B0 or pseudo-differential input B1", 4 CHB0N/CHB0 (in) "Fully-differential inverting analog input channel B0 or pseudo-differential input B0", 5 CHA1P/CHA3 (in) "Fully-differential noninverting analog input channel A1 or pseudo-differential input A3", 6 CHA1N/CHA2 (in) "Fully-differential inverting analog input channel A1 or pseudo-differential input A2", 7 CHA0P/CHA1 (in) "Fully-differential nonInverting analog input channel A1 or pseudo-differential input A1", 8 CHA0N/CHA0 (in) "Fully-differential inverting analog input channel A1 or pseudo-differential input A0", 9 REFIO1 (io) "Reference voltage input/output 1. A ceramic capacitor of 22uF connected to RGND is required.", 10 REFIO2 (io) "Reference voltage input/output 2. A ceramic capacitor of 22uF connected to RGND is required.", 11 RGND (power) "Reference ground. Connect to analog ground plane with a dedicated via.", 12 AGND (power) "Analog ground. Connect to analog ground plane.", 13 AVDD (power) "Analog power supply, 2.7V to 5.5V. Decouple to AGND with a 1uF ceramic capacitor.", 14 NC "This pin is not internally connected.", 15 NC "This pin is not internally connected.", 16 M1 (in) "Mode pin 1. Selects the digital output mode (see Table 4).", 17 M0 (in) "Mode pin 0. Selects analog input channel mode (see Table 4).", 18 SDI (in) "Serial data input. This pin is used to set up of the internal registers, and can also be used in ADS8361-compatible manner. The data on SDI are ignored when C\S\is high.", 19 CONVST (in) "Conversion start. The ADC switches from sample into hold mode on the rising edge of CONVST. Thereafter, the conversion starts with the next rising edge of the CLOCK pin.", 20 RD (in) "Read data. Synchronization pulse for the SDOx outputs and SDI input. RD only triggers when C\S\ is low.", 21 ~{CS} (in) "Chip select. When this pin is low, the SDOx, SDI, and RD pins are active; when this pin is high, the SDOx outputs are 3-stated, while the SDI and RD inputs are ignored.", 22 CLOCK (in) "External clock input. The range is 0.5MHz to 20MHz in half-clock mode, or 1MHz to 40MHz in full-clock mode.", 23 BUSY (out) "Converter busy indicator. BUSY goes high when the inputs are in hold mode and returns to low after the conversion is complete.", 24 SDOB (hiz) "Serial data output for converter B. Active only if M1 is low. 3-state when C\S\ is high.", 25 SDOA (hiz) "Serial data output for converter A. 3-state when C\S\ is high.", 26 NC "This pin is not internally connected.", 27 DVDD (power) "Digital supply, 2.3V to 5.5V. Decouple to DGND with a 1uF ceramic capacitor.", 28 DGND (power) "Digital ground. Connect to digital ground plane.", 29 AVDD (power) "Analog power supply, 2.7V to 5.5V. Decouple to AGND with a 1uF ceramic capacitor.", 30 AGND (power) "Analog ground. Connect to analog ground plane.", 31 CMA (in) "Common-mode voltage input for channels Ax (in pseudo-differential mode only).", 32 CMB (in) "Common-mode voltage input for channels Bx (in pseudo-differential mode only).", 33 EP

## ADS8363SRHBT
designator U?
16-Bit 1 MSPS 4 x 2 / 2 x 2 Simultaneous Sampling SAR ADC, -40 to 125 degC, 32-pin QFN (RHB32), Green (RoHS & no Sb/Br); Manufacturer: Texas Instruments; PartNumber: ADS8363SRHBT; # Input Channels: 4; Analog Voltage AV/DD(Max)(V): 5.5; Analog Voltage AV/DD(Min)(V): 2.7; Digital Supply(Min)(V): 2.3; INL(Max)(+/-LSB): 3; Interface: Serial; Resolution(Bits): 16; Sample Rate (max)(SPS): 1M; SFDR(dB): 100; SINAD(dB): 92; SNR(dB): 93; SubFamily: Precision ADC (<=10MSPS); DatasheetVersion: SBAS523B; PackageVersion: 4204326/D, 06/2011; PackageReference: RHB32-3450X3450TP; PackageDescription: 32-Pin Plastic Flat Pack, Body 5 x 5 mm, Pitch 0.5 mm; Supplier 1: Digi-Key; Supplier Part Number 1: ADS7813U/1KG4-ND; Supplier 2: Mouser; Supplier Part Number 2: 595-ADS7813U/1KG4; Architecture: SAR; Digital Supply(Max)(V): 5.5; Eco-Plan: Green (RoHS & no Sb/Br); Mounting Technology: Surface Mount; Code_JEDEC: MO-220; ComponentLink1Description: Manufacturer URL; ComponentLink1URL: http://www.ti.com/; ComponentLink2Description: Datasheet; ComponentLink2URL: http://www.ti.com/general/docs/lit/getliterature.tsp?genericPartNumber=ADS8363&fileType=pdf; ComponentLink3Description: Package Specification; ComponentLink3URL: http://www.ti.com/lit/ml/mpqf130c/mpqf130c.pdf
footprint TI-RHB32-3450X3450TP_V (QFN, 32-Leads, Body 5x5mm, Pitch 0.5mm, Thermal Pad 3.45x3.45mm)
pins: 1 CHB1P/CHB3 (in) "Fully-differential noninverting analog input channel B1 or pseudo-differential input B3", 2 CHB1N/CHB2 (in) "Fully-differential inverting analog input channel B1 or pseudo-differential input B2", 3 CHB0P/CHB1 (in) "Fully-differential noninverting analog input channel B0 or pseudo-differential input B1", 4 CHB0N/CHB0 (in) "Fully-differential inverting analog input channel B0 or pseudo-differential input B0", 5 CHA1P/CHA3 (in) "Fully-differential noninverting analog input channel A1 or pseudo-differential input A3", 6 CHA1N/CHA2 (in) "Fully-differential inverting analog input channel A1 or pseudo-differential input A2", 7 CHA0P/CHA1 (in) "Fully-differential nonInverting analog input channel A1 or pseudo-differential input A1", 8 CHA0N/CHA0 (in) "Fully-differential inverting analog input channel A1 or pseudo-differential input A0", 9 REFIO1 (io) "Reference voltage input/output 1. A ceramic capacitor of 22uF connected to RGND is required.", 10 REFIO2 (io) "Reference voltage input/output 2. A ceramic capacitor of 22uF connected to RGND is required.", 11 RGND (power) "Reference ground. Connect to analog ground plane with a dedicated via.", 12 AGND (power) "Analog ground. Connect to analog ground plane.", 13 AVDD (power) "Analog power supply, 2.7V to 5.5V. Decouple to AGND with a 1uF ceramic capacitor.", 14 NC "This pin is not internally connected.", 15 NC "This pin is not internally connected.", 16 M1 (in) "Mode pin 1. Selects the digital output mode (see Table 4).", 17 M0 (in) "Mode pin 0. Selects analog input channel mode (see Table 4).", 18 SDI (in) "Serial data input. This pin is used to set up of the internal registers, and can also be used in ADS8361-compatible manner. The data on SDI are ignored when C\S\is high.", 19 CONVST (in) "Conversion start. The ADC switches from sample into hold mode on the rising edge of CONVST. Thereafter, the conversion starts with the next rising edge of the CLOCK pin.", 20 RD (in) "Read data. Synchronization pulse for the SDOx outputs and SDI input. RD only triggers when C\S\ is low.", 21 ~{CS} (in) "Chip select. When this pin is low, the SDOx, SDI, and RD pins are active; when this pin is high, the SDOx outputs are 3-stated, while the SDI and RD inputs are ignored.", 22 CLOCK (in) "External clock input. The range is 0.5MHz to 20MHz in half-clock mode, or 1MHz to 40MHz in full-clock mode.", 23 BUSY (out) "Converter busy indicator. BUSY goes high when the inputs are in hold mode and returns to low after the conversion is complete.", 24 SDOB (hiz) "Serial data output for converter B. Active only if M1 is low. 3-state when C\S\ is high.", 25 SDOA (hiz) "Serial data output for converter A. 3-state when C\S\ is high.", 26 NC "This pin is not internally connected.", 27 DVDD (power) "Digital supply, 2.3V to 5.5V. Decouple to DGND with a 1uF ceramic capacitor.", 28 DGND (power) "Digital ground. Connect to digital ground plane.", 29 AVDD (power) "Analog power supply, 2.7V to 5.5V. Decouple to AGND with a 1uF ceramic capacitor.", 30 AGND (power) "Analog ground. Connect to analog ground plane.", 31 CMA (in) "Common-mode voltage input for channels Ax (in pseudo-differential mode only).", 32 CMB (in) "Common-mode voltage input for channels Bx (in pseudo-differential mode only).", 33 EP

## ADS8364Y/2K
designator U?
16-Bit 250 kSPS ADC, Parallel Out, with 6 x FIFO, 6 Channel, -40 to 85 degC, 64-pin QFP (PAG64), Green (RoHS & no Sb/Br); Manufacturer: Texas Instruments; PartNumber: ADS8364Y/2K; # Input Channels: 6; Analog Voltage AV/DD(Max)(V): 5.25; Analog Voltage AV/DD(Min)(V): 4.75; Architecture: SAR; ENOB(Bits): 13.3; INL(Max)(+/-LSB): 8; Interface: Parallel CMOS; Resolution(Bits): 16; Sample Rate (max)(SPS): 250k; SFDR(dB): 93.5; SINAD(dB): 82.5; SNR(dB): 83.2; SubFamily: Precision ADC (<=10MSPS); DatasheetVersion: SBAS219C; PackageVersion: 4040282/C, 11/1996; PackageReference: PAG64; PackageDescription: 64-Pin Plastic Flat Pack, Body 10 x 10 mm, Pitch 0.50 mm; Supplier 1: Digi-Key; Supplier Part Number 1: ADS7813UB-ND; Supplier 2: Mouser; Supplier Part Number 2: 595-ADS7813UB; Digital Supply(Max)(V): 5.25; Digital Supply(Min)(V): 4.75; Eco-Plan: Green (RoHS & no Sb/Br); Mounting Technology: Surface Mount; Code_JEDEC: MS-026; ComponentLink1Description: Manufacturer URL; ComponentLink1URL: http://www.ti.com/; ComponentLink2Description: Datasheet; ComponentLink2URL: http://www.ti.com/general/docs/lit/getliterature.tsp?genericPartNumber=ADS8364&fileType=pdf; ComponentLink3Description: Package Specification; ComponentLink3URL: http://www.ti.com/lit/ml/mtqf006a/mtqf006a.pdf
footprint TI-PAG64_N (QFP, 64-Leads, Body 10x10mm, Pitch 0.5mm, IPC Medium Density)
footprint TI-PAG64_L (QFP, 64-Leads, Body 10x10mm, Pitch 0.5mm, IPC High Density)
footprint TI-PAG64_M (QFP, 64-Leads, Body 10x10mm, Pitch 0.5mm, IPC Low Density)
part A pins: 1 CH A1- (in) "Inverting Input Channel A1", 2 CH A1+ (in) "Noninverting Input channel A1", 6 CH B0+ (in) "Noninverting Input Channel B0", 7 CH B0- (in) "Inverting Input Channel B0", 11 CH B1- (in) "Inverting Input Channel B1", 12 CH B1+ (in) "Noninverting Input Channel B1", 16 CH C0+ (in) "Noninverting Input Channel C0", 17 CH C0- (in) "Inverting Input Channel C0", 18 CH C1- (in) "Inverting Input Channel C1", 19 CH C1+ (in) "Noninverting Input Channel C1", 20 NC "No Connection", 23 BYTE (in) "2 x 8 Output Capability. Active HIGH.", 26 FD (out) "First Data, A0 Data", 27 ~{EOC} (out) "End of Conversion, Active LOW", 28 CLK (in) "An external CMOS compatible clock can be applied to the CLK input to synchronize the conversion process to an external source.", 29 ~{RD} (in) "Read, Active LOW", 30 ~{WR} (in) "Write, Active LOW", 31 ~{CS} (in) "Chip Select, Active LOW", 33 DB15 (hiz) "Data Bit 15-MSB", 34 DB14 (hiz) "Data Bit 14", 35 DB13 (hiz) "Data Bit 13", 36 DB12 (hiz) "Data Bit 12", 37 DB11 (hiz) "Data Bit 11", 38 DB10 (hiz) "Data Bit 10", 39 DB9 (hiz) "Data Bit 9", 40 DB8 (hiz) "Data Bit 8", 41 DB7 (io) "Data Bit 7, Software Input 7", 42 DB6 (io) "Data Bit 6, Software Input 6", 43 DB5 (io) "Data Bit 5, Software Input 5", 44 DB4 (io) "Data Bit 4, Software Input 4", 45 DB3 (io) "Data Bit 3, Software Input 3", 46 DB2 (io) "Data Bit 2, Software Input 2", 47 DB1 (io) "Data Bit 1, Software Input 1", 48 DB0 (io) "Data Bit 0, Software Input 0", 51 ~{RESET} (in) "Global Reset, Active LOW", 52 ADD (in) "Address Mode Select", 53 A2 (in) "Address Line 3", 54 A1 (in) "Address Line 2", 55 A0 (in) "Address Line 1", 56 ~{HOLDA} (in) "Hold Command A", 57 ~{HOLDB} (in) "Hold Command B", 58 ~{HOLDC} (in) "Hold Command C", 61 REFOUT (out) "Reference Output, attach 0.1uF and 10uF capacitors.", 62 REFIN (in) "Reference Input", 63 CH A0+ (in) "Noninverting Input Channel A0", 64 CH A0- (in) "Inverting Input Channel A0"
part B pins: 3 AVDD (power) "Analog Power Supply", 4 AGND (power) "Analog Ground", 5 SGND (power) "Signal Ground", 8 AVDD (power) "Analog Power Supply", 9 AGND (power) "Analog Ground", 10 SGND (power) "Signal Ground", 13 AVDD (power) "Analog Power Supply", 14 AGND (power) "Analog Ground", 15 SGND (power) "Signal Ground", 21 DGND (power) "Digital ground connected to AGND.", 22 DVDD (power) "+5V Power Supply for Digital Logic Connected to AVDD.", 24 BVDD (power) "Power supply for digital interface from 3V to 5V.", 25 BGND (power) "Buffer Digital Ground", 32 BGND (power) "Buffer Digital Ground", 49 BGND (power) "Buffer Digital Ground", 50 BVDD (power) "Power Supply for Digital Interface from 3V to 5V", 59 AVDD (power) "Analog Power Supply", 60 AGND (power) "Analog Ground"